# EAGLE library part POWER (library AD7173)
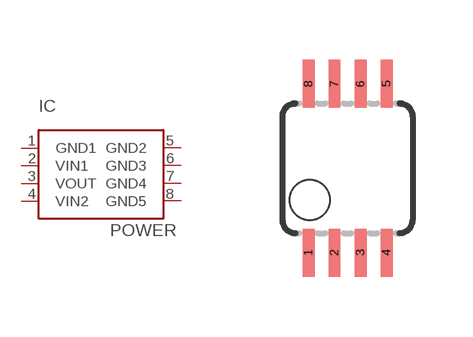
[diagram p1: symbol with the pads of MSOP08; footprint MSOP08]

Designator prefix IC

## POWER  [MSOP08]
1  GND1  pwr
2  VIN1  in
3  VOUT  out
4  VIN2  in
5  GND2  pwr
6  GND3  pwr
7  GND4  pwr
8  GND5  pwr

## Footprint MSOP08 (pad centres in mm)
Mini Small Outline Package
smd 0.3 x 1.2: 1 -0.976,-2.113; 2 -0.326,-2.113; 3 0.324,-2.113; 4 0.974,-2.113; 5 0.974,2.112; 6 0.324,2.112; 7 -0.326,2.112; 8 -0.976,2.112